# Altium integrated library TI Interface Display.IntLib: 133 symbols (part 3 of 16)
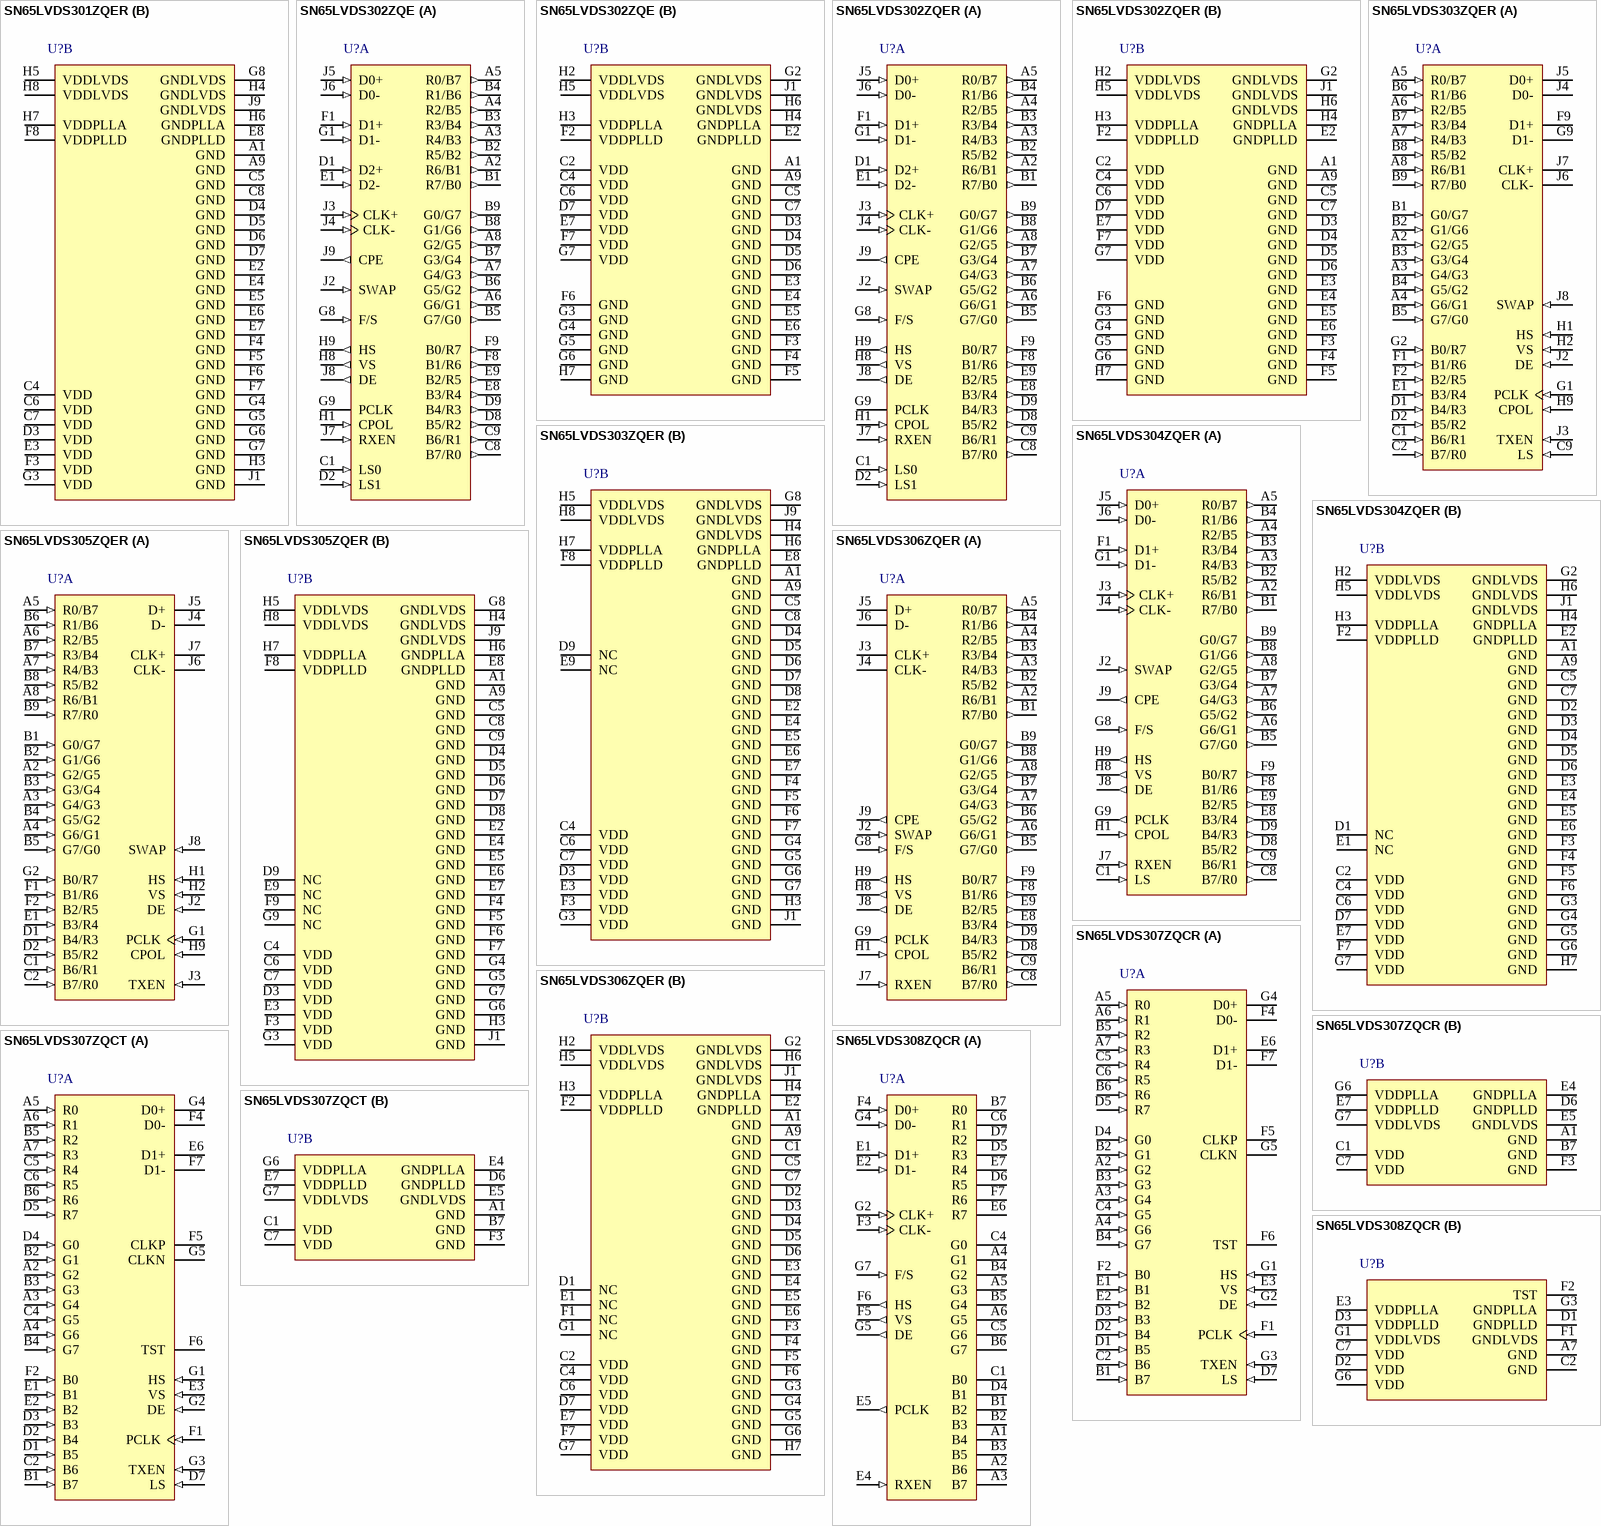
[diagram p16: symbols SN65LVDS301ZQER to SN65LVDS308ZQCR]

## SN65LVDS302ZQE
designator U?
1755 MB/s Programmable 27-Bit Display Serial Interface Receiver, 1.8 V, -40 to +85 degC, 80-pin BGAMICROSTARJUNIOR (ZQE), Green (RoHS & no Sb/Br); Manufacturer: Texas Instruments; PartNumber: SN65LVDS302ZQE; Data Throughput(MB/s): 1755; Number of Parallel Outputs: 27; PLL Frequency(MHz): 4 - 65; Serial Data Receiver Channels: 3; SubFamily: FlatLink (LVDS for LCD); Supply Voltage(s)(V): 1.8; Type of Line Circuit: subLVDS; DatasheetVersion: SLLS733B; PackageVersion: revF, Jul-2011; PackageReference: ZQE80; PackageDescription: 80-Ball Plastic Ball Grid Array, 5 x 5 mm Body, 0.5 mm Pitch; Supplier 1: Digi-Key; Supplier Part Number 1: 296-19877-ND; Supplier 2: Newark; Supplier Part Number 2: 02M4223; Supplier 3: Mouser; Supplier Part Number 3: 595-SN65LVDS302ZQE; Eco-Plan: Green (RoHS & no Sb/Br); Mounting Technology: Surface Mount; Code_JEDEC: MO-225; ComponentLink1Description: Datasheet; ComponentLink1URL: http://www.ti.com/lit/ds/symlink/sn65lvds302.pdf; ComponentLink2Description: URL Link1; ComponentLink2URL: SamplesURL:http://www.ti.com/product/sn65lvds302#samples
footprint ZQE80 (BGA, 80-Leads, Body 5x5mm, Pitch 0.5mm)
part A pins: A2 R6/B1 (out) "Pin assignment depends on SWAP pin setting", A3 R4/B3 (out) "Pin assignment depends on SWAP pin setting", A4 R2/B5 (out) "Pin assignment depends on SWAP pin setting", A5 R0/B7 (out) "Pin assignment depends on SWAP pin setting", A6 G6/G1 (out) "Pin assignment depends on SWAP pin setting", A7 G4/G3 (out) "Pin assignment depends on SWAP pin setting", A8 G2/G5 (out) "Pin assignment depends on SWAP pin setting", B1 R7/B0 (out) "Pin assignment depends on SWAP pin setting", B2 R5/B2 (out) "Pin assignment depends on SWAP pin setting", B3 R3/B4 (out) "Pin assignment depends on SWAP pin setting", B4 R1/B6 (out) "Pin assignment depends on SWAP pin setting", B5 G7/G0 (out) "Pin assignment depends on SWAP pin setting", B6 G5/G2 (out) "Pin assignment depends on SWAP pin setting", B7 G3/G4 (out) "Pin assignment depends on SWAP pin setting", B8 G1/G6 (out) "Pin assignment depends on SWAP pin setting", B9 G0/G7 (out) "Pin assignment depends on SWAP pin setting", C1 LS0 (in) "Link Select (Determines active SubLVDS Data Links and PLL Range)", C8 B7/R0 (out) "Pin assignment depends on SWAP pin setting", C9 B6/R1 (out) "Pin assignment depends on SWAP pin setting", D1 D2+ (in) "SubLVDS Data Link (active during normal operation when LS0 = low and LS1 = high, high-impedance when LS1 = low); input can be left open if unused", D2 LS1 (in) "Link Select (Determines active SubLVDS Data Links and PLL Range)", D8 B5/R2 (out) "Pin assignment depends on SWAP pin setting", D9 B4/R3 (out) "Pin assignment depends on SWAP pin setting", E1 D2- (in) "SubLVDS Data Link (active during normal operation when LS0 = low and LS1 = high, high-impedance when LS1 = low); input can be left open if unused", E8 B3/R4 (out) "Pin assignment depends on SWAP pin setting", E9 B2/R5 (out) "Pin assignment depends on SWAP pin setting", F1 D1+ (in) "SubLVDS Data Link (active during normal operation when LS0 = high and LS1 = low, or LS0 = low and LS1=high; high impedance if LS0 = LS1 = low); input can be left open if unused", F8 B1/R6 (out) "Pin assignment depends on SWAP pin setting", F9 B0/R7 (out) "Pin assignment depends on SWAP pin setting", G1 D1- (in) "SubLVDS Data Link (active during normal operation when LS0 = high and LS1 = low, or LS0 = low and LS1=high; high impedance if LS0 = LS1 = low); input can be left open if unused", G8 F/S (in) "CMOS bus rise time select 1 - fast output rise time 0 - slow output rise time", G9 PCLK (hiz) "Output Pixel Clock; rising or falling clock polarity is selected by control input CPOL", H1 CPOL (in) "Output Clock Polarity Selection CPOL 0 - rising edge clocking 1 - falling edge clocking", H8 VS (out) "Vertical Sync", H9 HS (out) "Horizontal Sync", J2 SWAP (in) "Bus Swap swaps the bus pins to allow device placement on top or bottom of PCB. See pinout drawing for pin assignments.0 - data output from R7...B0 1 - data output from B0...R7", J3 CLK+ (in) "SubLVDS Input Pixel Clock; Polarity is fixed.", J4 CLK- (in) "SubLVDS Input Pixel Clock; Polarity is fixed.", J5 D0+ (in) "SubLVDS Data Link (active during normal operation)", J6 D0- (in) "SubLVDS Data Link (active during normal operation)", J7 RXEN (in) "Disables the CMOS Drivers and Turns Off the PLL, putting device in shutdown mode 1 - Reciver enabled 0 - Receiver disabled (Shutdown)[see datasheet].", J8 DE (out) "Data Enable", J9 CPE (out) "Channel Parity Error This output indicates the detection of a parity error by generating an output high-pulse for half of a PCLK clock cycle; this allows counting parity errors with a simple counter.0 - no error high-pulse - (See Datasheet)"
part B pins: A1 GND (power) "Supply Ground", A9 GND (power) "Supply Ground", C2 VDD (power) "Supply Voltage", C4 VDD (power) "Supply Voltage", C5 GND (power) "Supply Ground", C6 VDD (power) "Supply Voltage", C7 GND (power) "Supply Ground", D3 GND (power) "Supply Ground", D4 GND (power) "Supply Ground", D5 GND (power) "Supply Ground", D6 GND (power) "Supply Ground", D7 VDD (power) "Supply Voltage", E2 GNDPLLD (power) "PLL digital GND", E3 GND (power) "Supply Ground", E4 GND (power) "Supply Ground", E5 GND (power) "Supply Ground", E6 GND (power) "Supply Ground", E7 VDD (power) "Supply Voltage", F2 VDDPLLD (power) "PLL digital supply Voltage", F3 GND (power) "Supply Ground", F4 GND (power) "Supply Ground", F5 GND (power) "Supply Ground", F6 GND (power) "Supply Ground", F7 VDD (power) "Supply Voltage", G2 GNDLVDS (power) "SubLVDS Ground", G3 GND (power) "Supply Ground", G4 GND (power) "Supply Ground", G5 GND (power) "Supply Ground", G6 GND (power) "Supply Ground", G7 VDD (power) "Supply Voltage", H2 VDDLVDS (power) "SubLVDS I/O supply Voltage", H3 VDDPLLA (power) "PLL analog supply Voltage", H4 GNDPLLA (power) "PLL analog GND", H5 VDDLVDS (power) "SubLVDS I/O supply Voltage", H6 GNDLVDS (power) "SubLVDS Ground", H7 GND (power) "Supply Ground", J1 GNDLVDS (power) "SubLVDS Ground"

## SN65LVDS302ZQER
designator U?
1755 MB/s Programmable 27-Bit Display Serial Interface Receiver, 1.8 V, -40 to +85 degC, 80-pin BGAMICROSTARJUNIOR (ZQE), Green (RoHS & no Sb/Br); Manufacturer: Texas Instruments; PartNumber: SN65LVDS302ZQER; Data Throughput(MB/s): 1755; Number of Parallel Outputs: 27; PLL Frequency(MHz): 4 - 65; Serial Data Receiver Channels: 3; SubFamily: FlatLink (LVDS for LCD); Supply Voltage(s)(V): 1.8; Type of Line Circuit: subLVDS; DatasheetVersion: SLLS733B; PackageVersion: revF, Jul-2011; PackageReference: ZQE80; PackageDescription: 80-Ball Plastic Ball Grid Array, 5 x 5 mm Body, 0.5 mm Pitch; Supplier 1: Digi-Key; Supplier Part Number 1: 296-21492-2-ND; Supplier 2: Digi-Key; Supplier Part Number 2: 296-21492-1-ND; Supplier 3: Newark; Supplier Part Number 3: 02M4224; Supplier 4: Mouser; Supplier Part Number 4: 595-SN65LVDS302ZQER; Eco-Plan: Green (RoHS & no Sb/Br); Mounting Technology: Surface Mount; Code_JEDEC: MO-225; ComponentLink1Description: Datasheet; ComponentLink1URL: http://www.ti.com/lit/ds/symlink/sn65lvds302.pdf; ComponentLink2Description: URL Link1; ComponentLink2URL: SamplesURL:http://www.ti.com/product/sn65lvds302#samples
footprint ZQE80 (BGA, 80-Leads, Body 5x5mm, Pitch 0.5mm)
part A pins: A2 R6/B1 (out) "Pin assignment depends on SWAP pin setting", A3 R4/B3 (out) "Pin assignment depends on SWAP pin setting", A4 R2/B5 (out) "Pin assignment depends on SWAP pin setting", A5 R0/B7 (out) "Pin assignment depends on SWAP pin setting", A6 G6/G1 (out) "Pin assignment depends on SWAP pin setting", A7 G4/G3 (out) "Pin assignment depends on SWAP pin setting", A8 G2/G5 (out) "Pin assignment depends on SWAP pin setting", B1 R7/B0 (out) "Pin assignment depends on SWAP pin setting", B2 R5/B2 (out) "Pin assignment depends on SWAP pin setting", B3 R3/B4 (out) "Pin assignment depends on SWAP pin setting", B4 R1/B6 (out) "Pin assignment depends on SWAP pin setting", B5 G7/G0 (out) "Pin assignment depends on SWAP pin setting", B6 G5/G2 (out) "Pin assignment depends on SWAP pin setting", B7 G3/G4 (out) "Pin assignment depends on SWAP pin setting", B8 G1/G6 (out) "Pin assignment depends on SWAP pin setting", B9 G0/G7 (out) "Pin assignment depends on SWAP pin setting", C1 LS0 (in) "Link Select (Determines active SubLVDS Data Links and PLL Range)", C8 B7/R0 (out) "Pin assignment depends on SWAP pin setting", C9 B6/R1 (out) "Pin assignment depends on SWAP pin setting", D1 D2+ (in) "SubLVDS Data Link (active during normal operation when LS0 = low and LS1 = high, high-impedance when LS1 = low); input can be left open if unused", D2 LS1 (in) "Link Select (Determines active SubLVDS Data Links and PLL Range)", D8 B5/R2 (out) "Pin assignment depends on SWAP pin setting", D9 B4/R3 (out) "Pin assignment depends on SWAP pin setting", E1 D2- (in) "SubLVDS Data Link (active during normal operation when LS0 = low and LS1 = high, high-impedance when LS1 = low); input can be left open if unused", E8 B3/R4 (out) "Pin assignment depends on SWAP pin setting", E9 B2/R5 (out) "Pin assignment depends on SWAP pin setting", F1 D1+ (in) "SubLVDS Data Link (active during normal operation when LS0 = high and LS1 = low, or LS0 = low and LS1=high; high impedance if LS0 = LS1 = low); input can be left open if unused", F8 B1/R6 (out) "Pin assignment depends on SWAP pin setting", F9 B0/R7 (out) "Pin assignment depends on SWAP pin setting", G1 D1- (in) "SubLVDS Data Link (active during normal operation when LS0 = high and LS1 = low, or LS0 = low and LS1=high; high impedance if LS0 = LS1 = low); input can be left open if unused", G8 F/S (in) "CMOS bus rise time select 1 - fast output rise time 0 - slow output rise time", G9 PCLK (hiz) "Output Pixel Clock; rising or falling clock polarity is selected by control input CPOL", H1 CPOL (in) "Output Clock Polarity Selection CPOL 0 - rising edge clocking 1 - falling edge clocking", H8 VS (out) "Vertical Sync", H9 HS (out) "Horizontal Sync", J2 SWAP (in) "Bus Swap swaps the bus pins to allow device placement on top or bottom of PCB. See pinout drawing for pin assignments.0 - data output from R7...B0 1 - data output from B0...R7", J3 CLK+ (in) "SubLVDS Input Pixel Clock; Polarity is fixed.", J4 CLK- (in) "SubLVDS Input Pixel Clock; Polarity is fixed.", J5 D0+ (in) "SubLVDS Data Link (active during normal operation)", J6 D0- (in) "SubLVDS Data Link (active during normal operation)", J7 RXEN (in) "Disables the CMOS Drivers and Turns Off the PLL, putting device in shutdown mode 1 - Reciver enabled 0 - Receiver disabled (Shutdown)[see datasheet].", J8 DE (out) "Data Enable", J9 CPE (out) "Channel Parity Error This output indicates the detection of a parity error by generating an output high-pulse for half of a PCLK clock cycle; this allows counting parity errors with a simple counter.0 - no error high-pulse - (See Datasheet)"
part B pins: A1 GND (power) "Supply Ground", A9 GND (power) "Supply Ground", C2 VDD (power) "Supply Voltage", C4 VDD (power) "Supply Voltage", C5 GND (power) "Supply Ground", C6 VDD (power) "Supply Voltage", C7 GND (power) "Supply Ground", D3 GND (power) "Supply Ground", D4 GND (power) "Supply Ground", D5 GND (power) "Supply Ground", D6 GND (power) "Supply Ground", D7 VDD (power) "Supply Voltage", E2 GNDPLLD (power) "PLL digital GND", E3 GND (power) "Supply Ground", E4 GND (power) "Supply Ground", E5 GND (power) "Supply Ground", E6 GND (power) "Supply Ground", E7 VDD (power) "Supply Voltage", F2 VDDPLLD (power) "PLL digital supply Voltage", F3 GND (power) "Supply Ground", F4 GND (power) "Supply Ground", F5 GND (power) "Supply Ground", F6 GND (power) "Supply Ground", F7 VDD (power) "Supply Voltage", G2 GNDLVDS (power) "SubLVDS Ground", G3 GND (power) "Supply Ground", G4 GND (power) "Supply Ground", G5 GND (power) "Supply Ground", G6 GND (power) "Supply Ground", G7 VDD (power) "Supply Voltage", H2 VDDLVDS (power) "SubLVDS I/O supply Voltage", H3 VDDPLLA (power) "PLL analog supply Voltage", H4 GNDPLLA (power) "PLL analog GND", H5 VDDLVDS (power) "SubLVDS I/O supply Voltage", H6 GNDLVDS (power) "SubLVDS Ground", H7 GND (power) "Supply Ground", J1 GNDLVDS (power) "SubLVDS Ground"

## SN65LVDS303ZQER
designator U?
810 MB/s QVGA-VGA 27-Bit Display Serial Interface Transmitter with 2 Transmitter Channels, 1.8 V, -40 to +85 degC, 80-pin BGAMICROSTARJUNIOR (ZQE), Green (RoHS & no Sb/Br); Manufacturer: Texas Instruments; PartNumber: SN65LVDS303ZQER; Data Throughput(MB/s): 810; Number of Parallel Inputs: 27; PLL Frequency(MHz): 4 - 30; Serial Data Transmitter Channels: 2; SubFamily: FlatLink (LVDS for LCD); Supply Voltage(s)(V): 1.8; Type of Line Circuit: subLVDS; DatasheetVersion: SLLS743A; PackageVersion: revF, Jul-2011; PackageReference: ZQE80; PackageDescription: 80-Ball Plastic Ball Grid Array, 5 x 5 mm Body, 0.5 mm Pitch; Supplier 1: Digi-Key; Supplier Part Number 1: 296-21493-2-ND; Supplier 2: Digi-Key; Supplier Part Number 2: 296-21493-1-ND; Supplier 3: Newark; Supplier Part Number 3: 14M2220; Supplier 4: Mouser; Supplier Part Number 4: 595-SN65LVDS303ZQER; Eco-Plan: Green (RoHS & no Sb/Br); Mounting Technology: Surface Mount; Code_JEDEC: MO-225; ComponentLink1Description: Datasheet; ComponentLink1URL: http://www.ti.com/general/docs/lit/getliterature.tsp?genericPartNumber=SN65LVDS303&fileType=pdf; ComponentLink2Description: URL Link1; ComponentLink2URL: SamplesURL:http://www.ti.com/product/sn65lvds303#samples
footprint ZQE80 (BGA, 80-Leads, Body 5x5mm, Pitch 0.5mm)
part A pins: A2 G2/G5 (in) "terminal assignment depends on SWAP terminal setting.", A3 G4/G3 (in) "terminal assignment depends on SWAP terminal setting.", A4 G6/G1 (in) "terminal assignment depends on SWAP terminal setting.", A5 R0/B7 (in) "terminal assignment depends on SWAP terminal setting.", A6 R2/B5 (in) "terminal assignment depends on SWAP terminal setting.", A7 R4/B3 (in) "terminal assignment depends on SWAP terminal setting.", A8 R6/B1 (in) "terminal assignment depends on SWAP terminal setting.", B1 G0/G7 (in) "terminal assignment depends on SWAP terminal setting.", B2 G1/G6 (in) "terminal assignment depends on SWAP terminal setting.", B3 G3/G4 (in) "terminal assignment depends on SWAP terminal setting.", B4 G5/G2 (in) "terminal assignment depends on SWAP terminal setting.", B5 G7/G0 (in) "terminal assignment depends on SWAP terminal setting.", B6 R1/B6 (in) "terminal assignment depends on SWAP terminal setting.", B7 R3/B4 (in) "terminal assignment depends on SWAP terminal setting.", B8 R5/B2 (in) "terminal assignment depends on SWAP terminal setting.", B9 R7/B0 (in) "terminal assignment depends on SWAP terminal setting.", C1 B6/R1 (in) "terminal assignment depends on SWAP terminal setting.", C2 B7/R0 (in) "terminal assignment depends on SWAP terminal setting.", C9 LS (in) "Link select (determines active SubLVDS data links and PLL range);", D1 B4/R3 (in) "terminal assignment depends on SWAP terminal setting.", D2 B5/R2 (in) "terminal assignment depends on SWAP terminal setting.", E1 B3/R4 (in) "terminal assignment depends on SWAP terminal setting.", F1 B1/R6 (in) "terminal assignment depends on SWAP terminal setting.", F2 B2/R5 (in) "terminal assignment depends on SWAP terminal setting.", F9 D1+ (hiz) "SubLVDS data link (active during normal operation when LS = high; high impedance if LS = low)", G1 PCLK (in) "Input pixel clock; rising or falling clock polarity is selected by control input CPOL", G2 B0/R7 (in) "terminal assignment depends on SWAP terminal setting.", G9 D1- (hiz) "SubLVDS data link (active during normal operation when LS = high; high impedance if LS = low)", H1 HS (in) "Horizontal sync", H2 VS (in) "Vertical sync", H9 CPOL (in) "Input clock polarity selection 0 - rising edge clocking 1 - falling edge clocking", J2 DE (in) "Data enable", J3 TXEN (in) "Disables the CMOS drivers and turns off the PLL, putting device in shutdown mode 1 - Transmitter enabled 0 - Transmitter disabled [see datasheet]", J4 D0- (hiz) "SubLVDS data link (active during normal operation)", J5 D0+ (hiz) "SubLVDS data link (active during normal operation)", J6 CLK- (hiz) "SubLVDS output clock; clock polarity is fixed.", J7 CLK+ (hiz) "SubLVDS output clock; clock polarity is fixed.", J8 SWAP (in) "Bus swap. Swaps the bus terminals to allow device placement on top or bottom of PCB.[see datasheet]"
part B pins: A1 GND (power) "Supply ground", A9 GND (power) "Supply ground", C4 VDD (power) "Supply voltage", C5 GND (power) "Supply ground", C6 VDD (power) "Supply voltage", C7 VDD (power) "Supply voltage", C8 GND (power) "Supply ground", D3 VDD (power) "Supply voltage", D4 GND (power) "Supply ground", D5 GND (power) "Supply ground", D6 GND (power) "Supply ground", D7 GND (power) "Supply ground", D8 GND (power) "Supply ground", D9 NC "No connection.", E2 GND (power) "Supply ground", E3 VDD (power) "Supply voltage", E4 GND (power) "Supply ground", E5 GND (power) "Supply ground", E6 GND (power) "Supply ground", E7 GND (power) "Supply ground", E8 GNDPLLD (power) "PLL digital GND", E9 NC "No connection.", F3 VDD (power) "Supply voltage", F4 GND (power) "Supply ground", F5 GND (power) "Supply ground", F6 GND (power) "Supply ground", F7 GND (power) "Supply ground", F8 VDDPLLD (power) "PLL digital supply voltage", G3 VDD (power) "Supply voltage", G4 GND (power) "Supply ground", G5 GND (power) "Supply ground", G6 GND (power) "Supply ground", G7 GND (power) "Supply ground", G8 GNDLVDS (power) "SubLVDS ground", H3 GND (power) "Supply ground", H4 GNDLVDS (power) "SubLVDS ground", H5 VDDLVDS (power) "SubLVDS I/O supply voltage", H6 GNDPLLA (power) "PLL analog GND", H7 VDDPLLA (power) "PLL analog supply voltage", H8 VDDLVDS (power) "SubLVDS I/O supply voltage", J1 GND (power) "Supply ground", J9 GNDLVDS (power) "SubLVDS ground"

## SN65LVDS304ZQER
designator U?
810 MB/s QVGA-VGA 27-Bit Display Serial Interface Receiver with 2 Receiver Channels, 1.8 V, -40 to +85 degC, 80-pin BGAMICROSTARJUNIOR (ZQE), Green (RoHS & no Sb/Br); Manufacturer: Texas Instruments; PartNumber: SN65LVDS304ZQER; Data Throughput(MB/s): 810; Number of Parallel Outputs: 27; PLL Frequency(MHz): 4 - 30; Serial Data Receiver Channels: 2; SubFamily: FlatLink (LVDS for LCD); Supply Voltage(s)(V): 1.8; Type of Line Circuit: subLVDS; DatasheetVersion: SLLS764B; PackageVersion: revF, Jul-2011; PackageReference: ZQE80; PackageDescription: 80-Ball Plastic Ball Grid Array, 5 x 5 mm Body, 0.5 mm Pitch; Supplier 1: Digi-Key; Supplier Part Number 1: 296-20766-2-ND; Supplier 2: Digi-Key; Supplier Part Number 2: 296-20766-1-ND; Supplier 3: Newark; Supplier Part Number 3: 18M7749; Supplier 4: Mouser; Supplier Part Number 4: 595-SN65LVDS304ZQER; Eco-Plan: Green (RoHS & no Sb/Br); Mounting Technology: Surface Mount; Code_JEDEC: MO-225; ComponentLink1Description: Datasheet; ComponentLink1URL: http://www.ti.com/general/docs/lit/getliterature.tsp?genericPartNumber=SN65LVDS304&fileType=pdf; ComponentLink2Description: URL Link1; ComponentLink2URL: SamplesURL:http://www.ti.com/product/sn65lvds304#samples
footprint ZQE80 (BGA, 80-Leads, Body 5x5mm, Pitch 0.5mm)
part A pins: A2 R6/B1 (out) "pin assignment depends on SWAP pin setting", A3 R4/B3 (out) "pin assignment depends on SWAP pin setting", A4 R2/B5 (out) "pin assignment depends on SWAP pin setting", A5 R0/B7 (out) "pin assignment depends on SWAP pin setting", A6 G6/G1 (out) "pin assignment depends on SWAP pin setting", A7 G4/G3 (out) "pin assignment depends on SWAP pin setting", A8 G2/G5 (out) "pin assignment depends on SWAP pin setting", B1 R7/B0 (out) "pin assignment depends on SWAP pin setting", B2 R5/B2 (out) "pin assignment depends on SWAP pin setting", B3 R3/B4 (out) "pin assignment depends on SWAP pin setting", B4 R1/B6 (out) "pin assignment depends on SWAP pin setting", B5 G7/G0 (out) "pin assignment depends on SWAP pin setting", B6 G5/G2 (out) "pin assignment depends on SWAP pin setting", B7 G3/G4 (out) "pin assignment depends on SWAP pin setting", B8 G1/G6 (out) "pin assignment depends on SWAP pin setting", B9 G0/G7 (out) "pin assignment depends on SWAP pin setting", C1 LS (in) "Link select (determines active SubLVDS data links and PLL range);", C8 B7/R0 (out) "pin assignment depends on SWAP pin setting", C9 B6/R1 (out) "pin assignment depends on SWAP pin setting", D8 B5/R2 (out) "pin assignment depends on SWAP pin setting", D9 B4/R3 (out) "pin assignment depends on SWAP pin setting", E8 B3/R4 (out) "pin assignment depends on SWAP pin setting", E9 B2/R5 (out) "pin assignment depends on SWAP pin setting", F1 D1+ (in) "SubLVDS data link (active during normal operation when LS = high, high-impedance if LS = low); input can be left open if unused.", F8 B1/R6 (out) "pin assignment depends on SWAP pin setting", F9 B0/R7 (out) "pin assignment depends on SWAP pin setting", G1 D1- (in) "SubLVDS data link (active during normal operation when LS = high, high-impedance if LS = low); input can be left open if unused.", G8 F/S (in) "CMOS bus rise time select. 1 - fast-output rise time 0 - slow-output rise time", G9 PCLK (out) "Output pixel clock; rising or falling clock polarity is selected by control input CPOL.", H1 CPOL (in) "Output clock polarity selection. 0 - rising edge clocking 1-falling edge clocking.", H8 VS (out) "Vertical sync", H9 HS (out) "Horizontal sync", J2 SWAP (in) "Bus swap swaps the bus pins to allow device placement on top or bottom of PCB. See pinout drawing for pin assignments. 0 - data output from R7...B0   1- data output from B0...R7", J3 CLK+ (in) "SubLVDS input pixel clock; polarity is fixed.", J4 CLK- (in) "SubLVDS input pixel clock; polarity is fixed.", J5 D0+ (in) "SubLVDS data link (active during normal operation)", J6 D0- (in) "SubLVDS data link (active during normal operation)", J7 RXEN (in) "Disables the CMOS Drivers and Turns Off the PLL, putting device in shutdown mode. 1 - Receiver enabled 0- Receiver disabled (shutdown).[see datasheet]", J8 DE (out) "Data enable.", J9 CPE (out) "Channel parity error This output indicates the detection of a parity error by generating an output high-pulse for half of a PCLK clock cycle; this allows counting parity errors with a [see datasheet]"
part B pins: A1 GND (power) "Supply ground.", A9 GND (power) "Supply ground.", C2 VDD (power) "Supply voltage.", C4 VDD (power) "Supply voltage.", C5 GND (power) "Supply ground.", C6 VDD (power) "Supply voltage.", C7 GND (power) "Supply ground.", D1 NC "No connection.", D2 GND (power) "Supply ground.", D3 GND (power) "Supply ground.", D4 GND (power) "Supply ground.", D5 GND (power) "Supply ground.", D6 GND (power) "Supply ground.", D7 VDD (power) "Supply voltage.", E1 NC "No connection.", E2 GNDPLLD (power) "PLL digital GND.", E3 GND (power) "Supply ground.", E4 GND (power) "Supply ground.", E5 GND (power) "Supply ground.", E6 GND (power) "Supply ground.", E7 VDD (power) "Supply voltage.", F2 VDDPLLD (power) "PLL digital supply voltage.", F3 GND (power) "Supply ground.", F4 GND (power) "Supply ground.", F5 GND (power) "Supply ground.", F6 GND (power) "Supply ground.", F7 VDD (power) "Supply voltage.", G2 GNDLVDS (power) "SubLVDS ground.", G3 GND (power) "Supply ground.", G4 GND (power) "Supply ground.", G5 GND (power) "Supply ground.", G6 GND (power) "Supply ground.", G7 VDD (power) "Supply voltage.", H2 VDDLVDS (power) "SubLVDS I/O supply voltage.", H3 VDDPLLA (power) "PLL analog supply voltage.", H4 GNDPLLA (power) "PLL analog GND.", H5 VDDLVDS (power) "SubLVDS I/O supply voltage.", H6 GNDLVDS (power) "SubLVDS ground.", H7 GND (power) "Supply ground.", J1 GNDLVDS (power) "SubLVDS ground."

## SN65LVDS305ZQER
designator U?
405 MB/s QVGA-HVGA 27-Bit Display Serial Interface Transmitter, 1.8 V, -40 to +85 degC, 80-pin BGAMICROSTARJUNIOR (ZQE), Green (RoHS & no Sb/Br); Manufacturer: Texas Instruments; PartNumber: SN65LVDS305ZQER; Data Throughput(MB/s): 405; Number of Parallel Inputs: 27; PLL Frequency(MHz): 4 - 15; Serial Data Transmitter Channels: 1; SubFamily: FlatLink (LVDS for LCD); Supply Voltage(s)(V): 1.8; Type of Line Circuit: subLVDS; DatasheetVersion: SLLS744A; PackageVersion: revF, Jul-2011; PackageReference: ZQE80; PackageDescription: 80-Ball Plastic Ball Grid Array, 5 x 5 mm Body, 0.5 mm Pitch; Supplier 1: Digi-Key; Supplier Part Number 1: 296-21245-2-ND; Supplier 2: Digi-Key; Supplier Part Number 2: 296-21245-1-ND; Supplier 3: Newark; Supplier Part Number 3: 14M2222; Supplier 4: Mouser; Supplier Part Number 4: 595-SN65LVDS305ZQER; Eco-Plan: Green (RoHS & no Sb/Br); Mounting Technology: Surface Mount; Code_JEDEC: MO-225; ComponentLink1Description: Datasheet; ComponentLink1URL: http://www.ti.com/general/docs/lit/getliterature.tsp?genericPartNumber=SN65LVDS305&fileType=pdf; ComponentLink2Description: URL Link1; ComponentLink2URL: SamplesURL:http://www.ti.com/product/sn65lvds305#samples
footprint ZQE80 (BGA, 80-Leads, Body 5x5mm, Pitch 0.5mm)
part A pins: A2 G2/G5 (in) "terminal assignment depends on SWAP terminal setting.", A3 G4/G3 (in) "terminal assignment depends on SWAP terminal setting.", A4 G6/G1 (in) "terminal assignment depends on SWAP terminal setting.", A5 R0/B7 (in) "terminal assignment depends on SWAP terminal setting.", A6 R2/B5 (in) "terminal assignment depends on SWAP terminal setting.", A7 R4/B3 (in) "terminal assignment depends on SWAP terminal setting.", A8 R6/B1 (in) "terminal assignment depends on SWAP terminal setting.", B1 G0/G7 (in) "terminal assignment depends on SWAP terminal setting.", B2 G1/G6 (in) "terminal assignment depends on SWAP terminal setting.", B3 G3/G4 (in) "terminal assignment depends on SWAP terminal setting.", B4 G5/G2 (in) "terminal assignment depends on SWAP terminal setting.", B5 G7/G0 (in) "terminal assignment depends on SWAP terminal setting.", B6 R1/B6 (in) "terminal assignment depends on SWAP terminal setting.", B7 R3/B4 (in) "terminal assignment depends on SWAP terminal setting.", B8 R5/B2 (in) "terminal assignment depends on SWAP terminal setting.", B9 R7/R0 (in) "terminal assignment depends on SWAP terminal setting.", C1 B6/R1 (in) "terminal assignment depends on SWAP terminal setting.", C2 B7/R0 (in) "terminal assignment depends on SWAP terminal setting.", D1 B4/R3 (in) "terminal assignment depends on SWAP terminal setting.", D2 B5/R2 (in) "terminal assignment depends on SWAP terminal setting.", E1 B3/R4 (in) "terminal assignment depends on SWAP terminal setting.", F1 B1/R6 (in) "terminal assignment depends on SWAP terminal setting.", F2 B2/R5 (in) "terminal assignment depends on SWAP terminal setting.", G1 PCLK (in) "Input pixel clock; rising or falling clock polarity is selected by control input CPOL", G2 B0/R7 (in) "Blue pixel data; terminal assignment depends on SWAP terminal setting.", H1 HS (in) "Horizontal sync", H2 VS (in) "Vertical sync", H9 CPOL (in) "Input clock polarity selection 0 - rising edge clocking 1- falling edge clocking", J2 DE (in) "Data enable", J3 TXEN (in) "Disables the CMOS drivers and turns off the PLL, putting device in shutdown mode [see datasheet]", J4 D- (hiz) "SubLVDS data link (active during normal operation)", J5 D+ (hiz) "SubLVDS data link (active during normal operation)", J6 CLK- (hiz) "SubLVDS output clock; clock polarity is fixed", J7 CLK+ (hiz) "SubLVDS output clock; clock polarity is fixed", J8 SWAP (in) "Bus swap. Swaps the bus terminals to allow device placement on top or bottom of pcb.See pinout drawing for terminal assignments.[see datasheet]"
part B pins: A1 GND (power) "Supply ground", A9 GND (power) "Supply ground", C4 VDD (power) "Supply voltage", C5 GND (power) "Supply ground", C6 VDD (power) "Supply voltage", C7 VDD (power) "Supply voltage", C8 GND (power) "Supply ground", C9 GND (power) "Supply ground", D3 VDD (power) "Supply voltage", D4 GND (power) "Supply ground", D5 GND (power) "Supply ground", D6 GND (power) "Supply ground", D7 GND (power) "Supply ground", D8 GND (power) "Supply ground", D9 NC "No connect", E2 GND (power) "Supply ground", E3 VDD (power) "Supply voltage", E4 GND (power) "Supply ground", E5 GND (power) "Supply ground", E6 GND (power) "Supply ground", E7 GND (power) "Supply ground", E8 GNDPLLD (power) "PLL digital GND", E9 NC "No connect", F3 VDD (power) "Supply voltage", F4 GND (power) "Supply ground", F5 GND (power) "Supply ground", F6 GND (power) "Supply ground", F7 GND (power) "Supply ground", F8 VDDPLLD (power) "PLL digital supply voltage", F9 NC "No connect", G3 VDD (power) "Supply voltage", G4 GND (power) "Supply ground", G5 GND (power) "Supply ground", G6 GND (power) "Supply ground", G7 GND (power) "Supply ground", G8 GNDLVDS (power) "SubLVDS ground", G9 NC "No connect", H3 GND (power) "Supply ground", H4 GNDLVDS (power) "SubLVDS ground", H5 VDDLVDS (power) "SubLVDS I/O supply voltage", H6 GNDPLLA (power) "PLL analog GND", H7 VDDPLLA (power) "PLL analog supply voltage", H8 VDDLVDS (power) "SubLVDS I/O supply voltage", J1 GND (power) "Supply ground", J9 GNDLVDS (power) "SubLVDS ground"

## SN65LVDS306ZQER
designator U?
405 MB/s QVGA-HVGA 27-Bit Display Serial Interface Receiver, 1.8 V, -40 to +85 degC, 80-pin BGAMICROSTARJUNIOR (ZQE), Green (RoHS & no Sb/Br); Manufacturer: Texas Instruments; PartNumber: SN65LVDS306ZQER; Data Throughput(MB/s): 405; Number of Parallel Outputs: 27; PLL Frequency(MHz): 4 - 15; Serial Data Receiver Channels: 1; SubFamily: FlatLink (LVDS for LCD); Supply Voltage(s)(V): 1.8; Type of Line Circuit: subLVDS; DatasheetVersion: SLLS765B; PackageVersion: revF, Jul-2011; PackageReference: ZQE80; PackageDescription: 80-Ball Plastic Ball Grid Array, 5 x 5 mm Body, 0.5 mm Pitch; Supplier 1: Digi-Key; Supplier Part Number 1: 296-20767-2-ND; Supplier 2: Digi-Key; Supplier Part Number 2: 296-20767-1-ND; Supplier 3: Newark; Supplier Part Number 3: 18M7750; Supplier 4: Mouser; Supplier Part Number 4: 595-SN65LVDS306ZQER; Eco-Plan: Green (RoHS & no Sb/Br); Mounting Technology: Surface Mount; Code_JEDEC: MO-225; ComponentLink1Description: Datasheet; ComponentLink1URL: http://www.ti.com/general/docs/lit/getliterature.tsp?genericPartNumber=SN65LVDS306&fileType=pdf; ComponentLink2Description: URL Link1; ComponentLink2URL: SamplesURL:http://www.ti.com/product/sn65lvds306#samples
footprint ZQE80 (BGA, 80-Leads, Body 5x5mm, Pitch 0.5mm)
part A pins: A2 R6/B1 (out) "Pin assignment depends on SWAP pin setting.", A3 R4/B3 (out) "Pin assignment depends on SWAP pin setting.", A4 R2/B5 (out) "Pin assignment depends on SWAP pin setting.", A5 R0/B7 (out) "Pin assignment depends on SWAP pin setting.", A6 G6/G1 (out) "Pin assignment depends on SWAP pin setting.", A7 G4/G3 (out) "Pin assignment depends on SWAP pin setting.", A8 G2/G5 (out) "Pin assignment depends on SWAP pin setting.", B1 R7/B0 (out) "Pin assignment depends on SWAP pin setting.", B2 R5/B2 (out) "Pin assignment depends on SWAP pin setting.", B3 R3/B4 (out) "Pin assignment depends on SWAP pin setting.", B4 R1/B6 (out) "Pin assignment depends on SWAP pin setting.", B5 G7/G0 (out) "Pin assignment depends on SWAP pin setting.", B6 G5/G2 (out) "Pin assignment depends on SWAP pin setting.", B7 G3/G4 (out) "Pin assignment depends on SWAP pin setting.", B8 G1/G6 (out) "Pin assignment depends on SWAP pin setting.", B9 G0/G7 (out) "Pin assignment depends on SWAP pin setting.", C8 B7/R0 (out) "Pin assignment depends on SWAP pin setting.", C9 B6/R1 (out) "Pin assignment depends on SWAP pin setting.", D8 B5/R2 (out) "Pin assignment depends on SWAP pin setting.", D9 B4/R3 (out) "Pin assignment depends on SWAP pin setting.", E8 B3/R4 (out) "Pin assignment depends on SWAP pin setting.", E9 B2/R5 (out) "Pin assignment depends on SWAP pin setting.", F8 B1/R6 (out) "Pin assignment depends on SWAP pin setting.", F9 B0/R7 (out) "Pin assignment depends on SWAP pin setting.", G8 F/S (in) "CMOS bus rise time select  1 - fast-output rise time  0 - slow-output rise time", G9 PCLK (out) "Output pixel clock; rising or falling clock polarity is selected by control input CPOL.", H1 CPOL (in) "Output clock polarity selection  0 - rising edge clocking  1 - falling edge clocking", H8 VS (out) "Vertical sync", H9 HS (out) "Horizontal sync", J2 SWAP (in) "Bus swap swaps the bus pins to allow device placement on top or bottom of PCB. See pinout drawing for pin assignments. 0 - data output from R7...B0  1 - data output from B0...R7", J3 CLK+ (hiz) "SubLVDS input pixel clock; polarity is fixed.", J4 CLK- (hiz) "SubLVDS input pixel clock; polarity is fixed.", J5 D+ (hiz) "SubLVDS data link (active during normal operation)", J6 D- (hiz) "SubLVDS data link (active during normal operation)", J7 RXEN (in) "Disables the CMOS Drivers and Turns Off the PLL, putting device in shutdown mode  1 - Receiver enabled  0 - Receiver disabled (shutdown)[see datasheet]", J8 DE (out) "Data enable", J9 CPE (out) "Channel parity error  This output indicates the detection of a parity error by generating an output high-pulse for half of a PCLK clock cycle; this allows counting parity errors with a simple counter. 0 - no error high-pulse (See Datasheet)"
part B pins: A1 GND (power) "Supply ground", A9 GND (power) "Supply ground", C1 GND (power) "Supply ground", C2 VDD (power) "Supply voltage", C4 VDD (power) "Supply voltage", C5 GND (power) "Supply ground", C6 VDD (power) "Supply voltage", C7 GND (power) "Supply ground", D1 NC "No connection.", D2 GND (power) "Supply ground", D3 GND (power) "Supply ground", D4 GND (power) "Supply ground", D5 GND (power) "Supply ground", D6 GND (power) "Supply ground", D7 VDD (power) "Supply voltage", E1 NC "No connection.", E2 GNDPLLD (power) "PLL digital GND", E3 GND (power) "Supply ground", E4 GND (power) "Supply ground", E5 GND (power) "Supply ground", E6 GND (power) "Supply ground", E7 VDD (power) "Supply voltage", F1 NC "No connection.", F2 VDDPLLD (power) "PLL digital supply voltage", F3 GND (power) "Supply ground", F4 GND (power) "Supply ground", F5 GND (power) "Supply ground", F6 GND (power) "Supply ground", F7 VDD (power) "Supply voltage", G1 NC "No connection.", G2 GNDLVDS (power) "SubLVDS ground", G3 GND (power) "Supply ground", G4 GND (power) "Supply ground", G5 GND (power) "Supply ground", G6 GND (power) "Supply ground", G7 VDD (power) "Supply voltage", H2 VDDLVDS (power) "SubLVDS I/O supply voltage", H3 VDDPLLA (power) "PLL analog supply voltage", H4 GNDPLLA (power) "PLL analog GND", H5 VDDLVDS (power) "SubLVDS I/O supply voltage", H6 GNDLVDS (power) "SubLVDS ground", H7 GND (power) "Supply ground", J1 GNDLVDS (power) "SubLVDS ground"

## SN65LVDS307ZQCR
designator U?
810 MB/s QVGA-VGA 27-Bit Display Serial Interface Transmitter with 2 Transmitter Channels, 1.8 V, -40 to +85 degC, 48-pin BGA MICROSTAR JUNIOR (ZQC), Green (RoHS & no Sb/Br); Manufacturer: Texas Instruments; PartNumber: SN65LVDS307ZQCR; Data Throughput(MB/s): 810; Number of Parallel Inputs: 27; PLL Frequency(MHz): 4 - 30; Serial Data Transmitter Channels: 2; SubFamily: FlatLink (LVDS for LCD); Supply Voltage(s)(V): 1.8; Type of Line Circuit: subLVDS; DatasheetVersion: SLLS834; PackageVersion: revA, Sep-2002; PackageReference: ZQC48; PackageDescription: 48-Ball Plastic Ball Grid Array, 4 x 4 mm Body, 0.5 mm Pitch, Pb-Free; Supplier 1: Digi-Key; Supplier Part Number 1: 296-21806-2-ND; Supplier 2: Digi-Key; Supplier Part Number 2: 296-21806-1-ND; Supplier 3: Digi-Key; Supplier Part Number 3: 296-21806-6-ND; Supplier 4: Newark; Supplier Part Number 4: 45M9839; Supplier 5: Mouser; Supplier Part Number 5: 595-SN65LVDS307ZQCR; Eco-Plan: Green (RoHS & no Sb/Br); Mounting Technology: Surface Mount; Code_JEDEC: MO-225; ComponentLink1Description: Datasheet; ComponentLink1URL: http://www.ti.com/general/docs/lit/getliterature.tsp?genericPartNumber=SN65LVDS307&fileType=pdf; ComponentLink2Description: URL Link1; ComponentLink2URL: SamplesURL:http://www.ti.com/product/sn65lvds307#samples
footprint ZQC48 (BGA, 48-Leads, Body 4x4mm, Pitch 0.5mm)
part A pins: A2 G2 (in) "Green pixel data", A3 G4 (in) "Green pixel data", A4 G6 (in) "Green pixel data", A5 R0 (in) "Red pixel data", A6 R1 (in) "Red pixel data", A7 R3 (in) "Red pixel data", B1 B7 (in) "Blue pixel data", B2 G1 (in) "Green pixel data", B3 G3 (in) "Green pixel data", B4 G7 (in) "Green pixel data", B5 R2 (in) "Red pixel data", B6 R6 (in) "Red pixel data", C2 B6 (in) "Blue pixel data", C4 G5 (in) "Green pixel data", C5 R4 (in) "Red pixel data", C6 R5 (in) "Red pixel data", D1 B5 (in) "Blue pixel data", D2 B4 (in) "Blue pixel data", D3 B3 (in) "Blue pixel data", D4 G0 (in) "Green pixel data", D5 R7 (in) "Red pixel data", D7 LS (in) "Link select (determines active SubLVDS data links and PLL range);", E1 B1 (in) "Blue pixel data", E2 B2 (in) "Blue pixel data", E3 VS (in) "Vertical sync", E6 D1+ (hiz) "SubLVDS data link (active during normal operation when LS = high; high impedance if LS =low)", F1 PCLK (in) "Input pixel clock (rising clock polarity)", F2 B0 (in) "Blue pixel data", F4 D0- (hiz) "SubLVDS data link (active during normal operation)", F5 CLKP (hiz) "SubLVDS intput pixel clock; clock polarity is fixed.", F6 TST "Test (TI internal use only); tie this pin permanently to GND.", F7 D1- (hiz) "SubLVDS data link (active during normal operation when LS = high; high impedance if LS =  low)", G1 HS (in) "Horizontal sync", G2 DE (in) "Data enable", G3 TXEN (in) "Disables the CMOS drivers and turns off the PLL, putting device in shutdown mode[see datasheet]", G4 D0+ (hiz) "SubLVDS data link (active during normal operation", G5 CLKN (hiz) "SubLVDS intput pixel clock; clock polarity is fixed."
part B pins: A1 GND (power) "Supply ground", B7 GND (power) "Supply ground", C1 VDD (power) "Supply voltage", C7 VDD (power) "Supply voltage", D6 GNDPLLD (power) "PLL digital GND", E4 GNDPLLA (power) "PLL analog GND", E5 GNDLVDS (power) "SubLVDS ground", E7 VDDPLLD (power) "PLL digital supply voltage", F3 GND (power) "Supply ground", G6 VDDPLLA (power) "PLL analog supply voltage", G7 VDDLVDS (power) "SubLVDS I/O supply voltage"

## SN65LVDS307ZQCT
designator U?
810 MB/s QVGA-VGA 27-Bit Display Serial Interface Transmitter with 2 Transmitter Channels, 1.8 V, -40 to +85 degC, 48-pin BGA MICROSTAR JUNIOR (ZQC), Green (RoHS & no Sb/Br); Manufacturer: Texas Instruments; PartNumber: SN65LVDS307ZQCT; Data Throughput(MB/s): 810; Number of Parallel Inputs: 27; PLL Frequency(MHz): 4 - 30; Serial Data Transmitter Channels: 2; SubFamily: FlatLink (LVDS for LCD); Supply Voltage(s)(V): 1.8; Type of Line Circuit: subLVDS; DatasheetVersion: SLLS834; PackageVersion: revA, Sep-2002; PackageReference: ZQC48; PackageDescription: 48-Ball Plastic Ball Grid Array, 4 x 4 mm Body, 0.5 mm Pitch, Pb-Free; Supplier 1: Digi-Key; Supplier Part Number 1: SN65LVDS307ZQCT-ND; Supplier 2: Newark; Supplier Part Number 2: 45M9840; Supplier 3: Mouser; Supplier Part Number 3: 595-SN65LVDS307ZQCT; Eco-Plan: Green (RoHS & no Sb/Br); Mounting Technology: Surface Mount; Code_JEDEC: MO-225; ComponentLink1Description: Datasheet; ComponentLink1URL: http://www.ti.com/general/docs/lit/getliterature.tsp?genericPartNumber=SN65LVDS307&fileType=pdf; ComponentLink2Description: URL Link1; ComponentLink2URL: SamplesURL:http://www.ti.com/product/sn65lvds307#samples
footprint ZQC48 (BGA, 48-Leads, Body 4x4mm, Pitch 0.5mm)
part A pins: A2 G2 (in) "Green pixel data", A3 G4 (in) "Green pixel data", A4 G6 (in) "Green pixel data", A5 R0 (in) "Red pixel data", A6 R1 (in) "Red pixel data", A7 R3 (in) "Red pixel data", B1 B7 (in) "Blue pixel data", B2 G1 (in) "Green pixel data", B3 G3 (in) "Green pixel data", B4 G7 (in) "Green pixel data", B5 R2 (in) "Red pixel data", B6 R6 (in) "Red pixel data", C2 B6 (in) "Blue pixel data", C4 G5 (in) "Green pixel data", C5 R4 (in) "Red pixel data", C6 R5 (in) "Red pixel data", D1 B5 (in) "Blue pixel data", D2 B4 (in) "Blue pixel data", D3 B3 (in) "Blue pixel data", D4 G0 (in) "Green pixel data", D5 R7 (in) "Red pixel data", D7 LS (in) "Link select (determines active SubLVDS data links and PLL range);", E1 B1 (in) "Blue pixel data", E2 B2 (in) "Blue pixel data", E3 VS (in) "Vertical sync", E6 D1+ (hiz) "SubLVDS data link (active during normal operation when LS = high; high impedance if LS =low)", F1 PCLK (in) "Input pixel clock (rising clock polarity)", F2 B0 (in) "Blue pixel data", F4 D0- (hiz) "SubLVDS data link (active during normal operation)", F5 CLKP (hiz) "SubLVDS intput pixel clock; clock polarity is fixed.", F6 TST "Test (TI internal use only); tie this pin permanently to GND.", F7 D1- (hiz) "SubLVDS data link (active during normal operation when LS = high; high impedance if LS =  low)", G1 HS (in) "Horizontal sync", G2 DE (in) "Data enable", G3 TXEN (in) "Disables the CMOS drivers and turns off the PLL, putting device in shutdown mode[see datasheet]", G4 D0+ (hiz) "SubLVDS data link (active during normal operation", G5 CLKN (hiz) "SubLVDS intput pixel clock; clock polarity is fixed."
part B pins: A1 GND (power) "Supply ground", B7 GND (power) "Supply ground", C1 VDD (power) "Supply voltage", C7 VDD (power) "Supply voltage", D6 GNDPLLD (power) "PLL digital GND", E4 GNDPLLA (power) "PLL analog GND", E5 GNDLVDS (power) "SubLVDS ground", E7 VDDPLLD (power) "PLL digital supply voltage", F3 GND (power) "Supply ground", G6 VDDPLLA (power) "PLL analog supply voltage", G7 VDDLVDS (power) "SubLVDS I/O supply voltage"

## SN65LVDS308ZQCR
designator U?
810 MB/s QVGA-VGA 27-Bit Display Serial Interface Receiver, 1.8 V, -40 to +85 degC, 48-pin BGA MICROSTAR JUNIOR (ZQC), Green (RoHS & no Sb/Br); Manufacturer: Texas Instruments; PartNumber: SN65LVDS308ZQCR; Data Throughput(MB/s): 810; Number of Parallel Outputs: 27; PLL Frequency(MHz): 4 - 30; SubFamily: FlatLink (LVDS for LCD); Supply Voltage(s)(V): 1.8; Type of Line Circuit: subLVDS; DatasheetVersion: SLLS835; PackageVersion: revA, Sep-2002; PackageReference: ZQC48; PackageDescription: 48-Ball Plastic Ball Grid Array, 4 x 4 mm Body, 0.5 mm Pitch, Pb-Free; Supplier 1: Digi-Key; Supplier Part Number 1: 296-21807-2-ND; Supplier 2: Digi-Key; Supplier Part Number 2: 296-21807-1-ND; Supplier 3: Digi-Key; Supplier Part Number 3: 296-21807-6-ND; Supplier 4: Newark; Supplier Part Number 4: 45M9841; Supplier 5: Mouser; Supplier Part Number 5: 595-SN65LVDS308ZQCR; Eco-Plan: Green (RoHS & no Sb/Br); Mounting Technology: Surface Mount; Code_JEDEC: MO-225; ComponentLink1Description: Datasheet; ComponentLink1URL: http://www.ti.com/general/docs/lit/getliterature.tsp?genericPartNumber=SN65LVDS308&fileType=pdf; ComponentLink2Description: URL Link1; ComponentLink2URL: SamplesURL:http://www.ti.com/product/sn65lvds308#samples
footprint ZQC48 (BGA, 48-Leads, Body 4x4mm, Pitch 0.5mm)
part A pins: A1 B4 (hiz) "Blue-pixel data", A2 B6 (hiz) "Blue-pixel data", A3 B7 (hiz) "Blue-pixel data", A4 G1 (hiz) "Green-pixel data", A5 G3 (hiz) "Green-pixel data", A6 G5 (hiz) "Green-pixel data", B1 B2 (hiz) "Blue-pixel data", B2 B3 (hiz) "Blue-pixel data", B3 B5 (hiz) "Blue-pixel data", B4 G2 (hiz) "Green-pixel data", B5 G4 (hiz) "Green-pixel data", B6 G7 (hiz) "Green-pixel data", B7 R0 (hiz) "Red-pixel data", C1 B0 (hiz) "Blue-pixel data", C4 G0 (hiz) "Green-pixel data", C5 G6 (hiz) "Green-pixel data", C6 R1 (hiz) "Red-pixel data", D4 B1 (hiz) "Blue-pixel data", D5 R3 (hiz) "Red-pixel data", D6 R5 (hiz) "Red-pixel data", D7 R2 (hiz) "Red-pixel data", E1 D1+ (in) "SubLVDS data link", E2 D1- (in) "SubLVDS data link", E4 RXEN (in) "Disables the CMOS Drivers and Turns Off the PLL, putting device in shutdown mode  1 - Receiver enabled 0 - Receiver disabled (shutdown)[see datasheet]", E5 PCLK (out) "Output pixel clock (rising clock polarity)", E6 R7 (hiz) "Red-pixel data", E7 R4 (hiz) "Red-pixel data", F3 CLK- (in) "SubLVDS input pixel clock; polarity is fixed.", F4 D0+ (in) "SubLVDS data link", F5 VS (out) "Vertical sync", F6 HS (out) "Horizontal sync", F7 R6 (hiz) "Red-pixel data", G2 CLK+ (in) "SubLVDS input pixel clock; polarity is fixed.", G4 D0- (in) "SubLVDS data link", G5 DE (out) "Data enable", G7 F/S (in) "CMOS bus rise time select  1 - fast-output rise time  0 - slow-output rise time"
part B pins: A7 GND (power) "Supply ground", C2 GND (power) "Supply ground", C7 VDD (power) "Supply voltage", D1 GNDPLLD (power) "PLL digital GND", D2 VDD (power) "Supply voltage", D3 VDDPLLD (power) "PLL digital supply voltage", E3 VDDPLLA (power) "PLL analog supply voltage", F1 GNDLVDS (power) "SubLVDS ground", F2 TST (power) "Test - this input is used for TI internal test purposes only and must be tied permanently to VSS.", G1 VDDLVDS (power) "SubLVDS I/O supply voltage", G3 GNDPLLA (power) "PLL analog GND", G6 VDD (power) "Supply voltage"

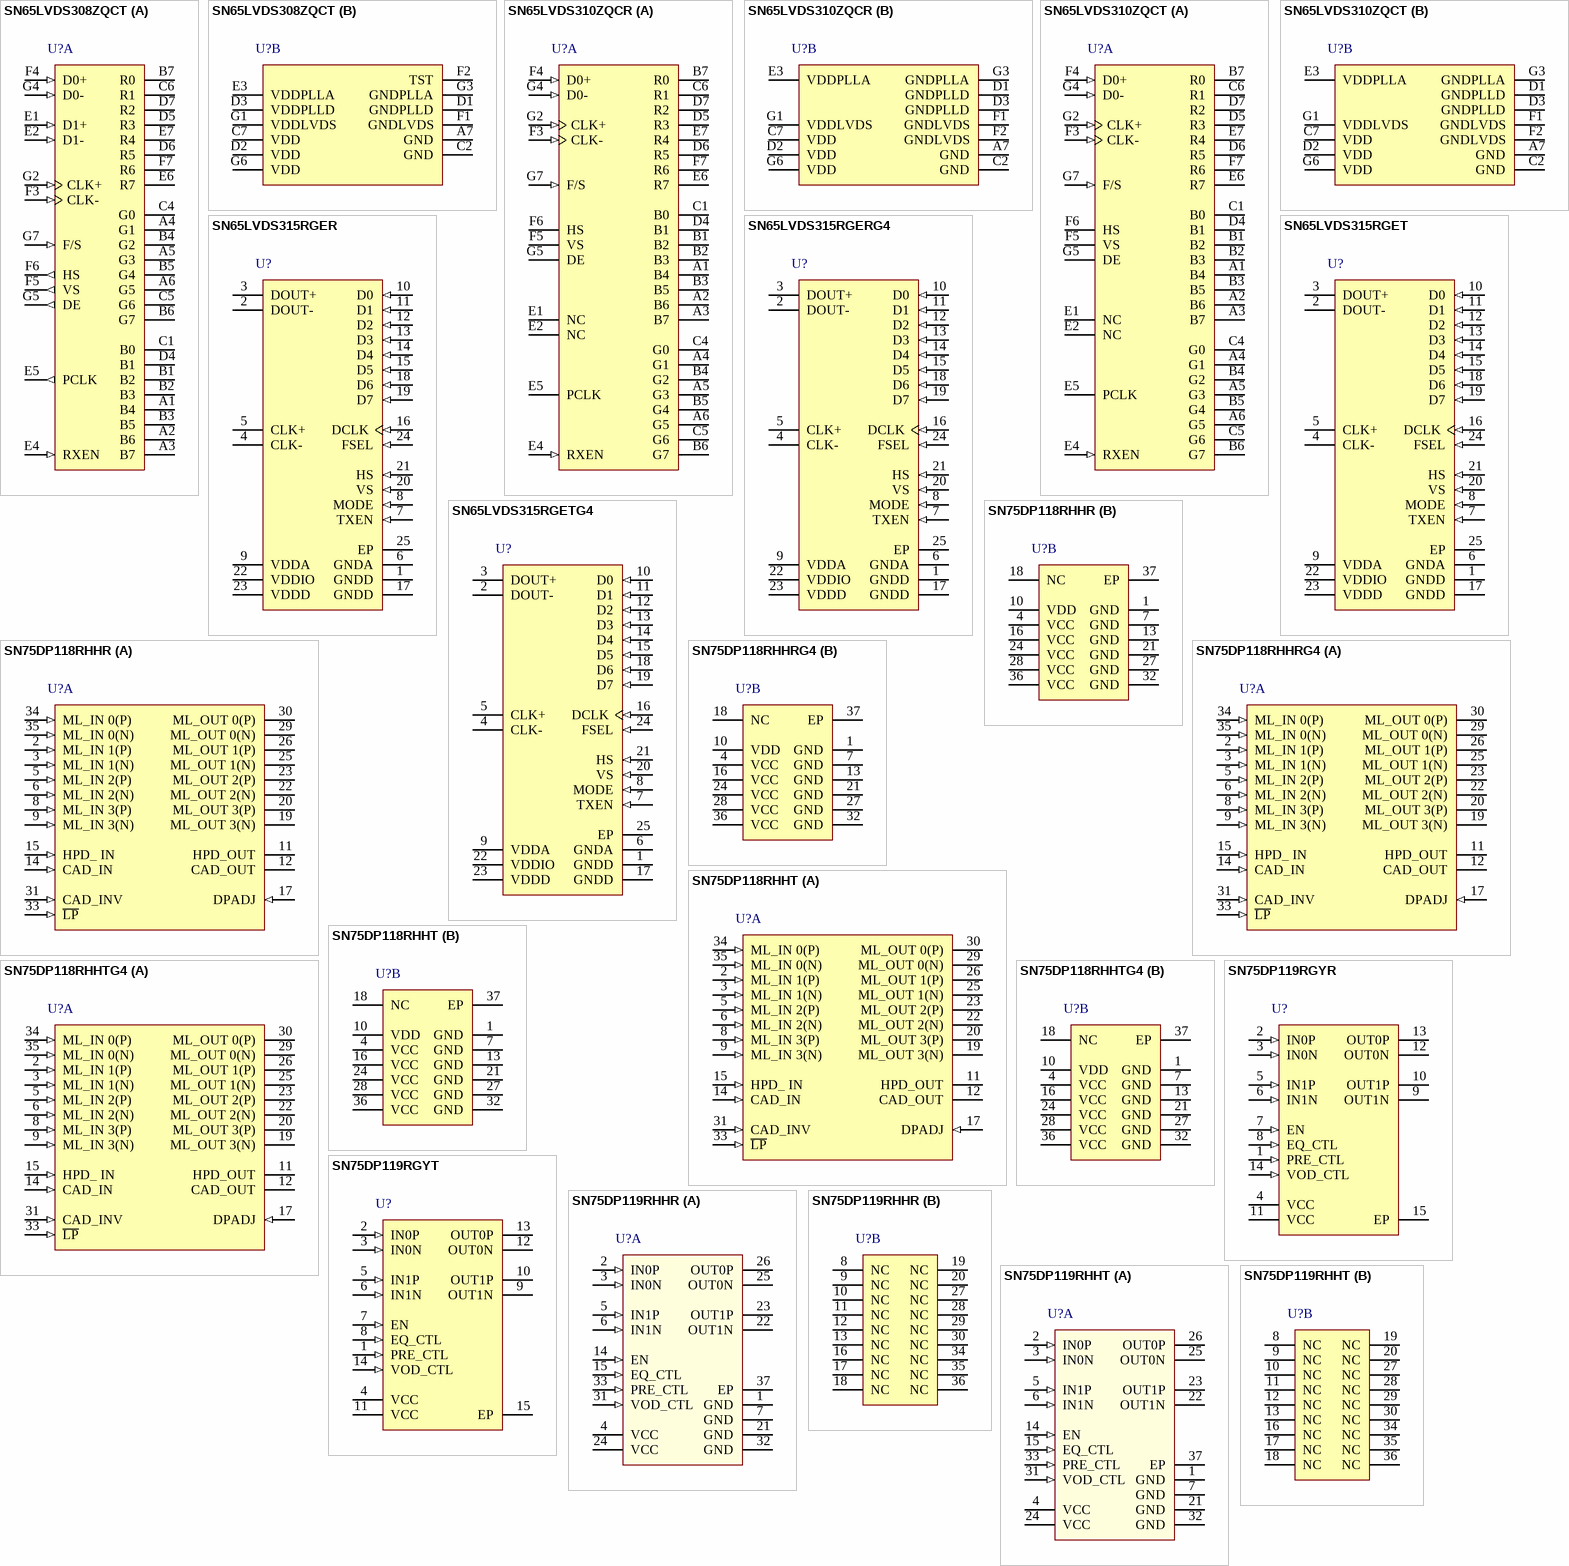
[diagram p3: symbols SN65LVDS308ZQCT to SN75DP119RHHT]

## SN65LVDS308ZQCT
designator U?
810 MB/s QVGA VGA 27-Bit Display Serial Interface Receiver, 1.8 V, -40 to +85 degC, 48-pin BGA MICROSTAR JUNIOR (ZQC), Green (RoHS & no Sb/Br); Manufacturer: Texas Instruments; PartNumber: SN65LVDS308ZQCT; Data Throughput(MB/s): 810; Number of Parallel Outputs: 27; PLL Frequency(MHz): 4 - 30; SubFamily: FlatLink (LVDS for LCD); Supply Voltage(s)(V): 1.8; Type of Line Circuit: subLVDS; DatasheetVersion: SLLS835; PackageVersion: revA, Sep-2002; PackageReference: ZQC48; PackageDescription: 48-Ball Plastic Ball Grid Array, 4 x 4 mm Body, 0.5 mm Pitch, Pb-Free; Supplier 1: Digi-Key; Supplier Part Number 1: SN65LVDS308ZQCT-ND; Supplier 2: Newark; Supplier Part Number 2: 45M9842; Supplier 3: Mouser; Supplier Part Number 3: 595-SN65LVDS308ZQCT; Eco-Plan: Green (RoHS & no Sb/Br); Mounting Technology: Surface Mount; Code_JEDEC: MO-225; ComponentLink1Description: Datasheet; ComponentLink1URL: http://www.ti.com/general/docs/lit/getliterature.tsp?genericPartNumber=SN65LVDS308&fileType=pdf; ComponentLink2Description: URL Link1; ComponentLink2URL: SamplesURL:http://www.ti.com/product/sn65lvds308#samples
footprint ZQC48 (BGA, 48-Leads, Body 4x4mm, Pitch 0.5mm)
part A pins: A1 B4 (hiz) "Blue-pixel data", A2 B6 (hiz) "Blue-pixel data", A3 B7 (hiz) "Blue-pixel data", A4 G1 (hiz) "Green-pixel data", A5 G3 (hiz) "Green-pixel data", A6 G5 (hiz) "Green-pixel data", B1 B2 (hiz) "Blue-pixel data", B2 B3 (hiz) "Blue-pixel data", B3 B5 (hiz) "Blue-pixel data", B4 G2 (hiz) "Green-pixel data", B5 G4 (hiz) "Green-pixel data", B6 G7 (hiz) "Green-pixel data", B7 R0 (hiz) "Red-pixel data", C1 B0 (hiz) "Blue-pixel data", C4 G0 (hiz) "Green-pixel data", C5 G6 (hiz) "Green-pixel data", C6 R1 (hiz) "Red-pixel data", D4 B1 (hiz) "Blue-pixel data", D5 R3 (hiz) "Red-pixel data", D6 R5 (hiz) "Red-pixel data", D7 R2 (hiz) "Red-pixel data", E1 D1+ (in) "SubLVDS data link", E2 D1- (in) "SubLVDS data link", E4 RXEN (in) "Disables the CMOS Drivers and Turns Off the PLL, putting device in shutdown mode  1 - Receiver enabled 0 - Receiver disabled (shutdown)[see datasheet]", E5 PCLK (out) "Output pixel clock (rising clock polarity)", E6 R7 (hiz) "Red-pixel data", E7 R4 (hiz) "Red-pixel data", F3 CLK- (in) "SubLVDS input pixel clock; polarity is fixed.", F4 D0+ (in) "SubLVDS data link", F5 VS (out) "Vertical sync", F6 HS (out) "Horizontal sync", F7 R6 (hiz) "Red-pixel data", G2 CLK+ (in) "SubLVDS input pixel clock; polarity is fixed.", G4 D0- (in) "SubLVDS data link", G5 DE (out) "Data enable", G7 F/S (in) "CMOS bus rise time select  1 - fast-output rise time  0 - slow-output rise time"
part B pins: A7 GND (power) "Supply ground", C2 GND (power) "Supply ground", C7 VDD (power) "Supply voltage", D1 GNDPLLD (power) "PLL digital GND", D2 VDD (power) "Supply voltage", D3 VDDPLLD (power) "PLL digital supply voltage", E3 VDDPLLA (power) "PLL analog supply voltage", F1 GNDLVDS (power) "SubLVDS ground", F2 TST (power) "Test - this input is used for TI internal test purposes only and must be tied permanently to VSS.", G1 VDDLVDS (power) "SubLVDS I/O supply voltage", G3 GNDPLLA (power) "PLL analog GND", G6 VDD (power) "Supply voltage"